# Altium schematic symbol library Isolated DC DC Converters.SchLib: 7 symbols
Pins are listed as number, name and electrical type; pins without a type are passive.

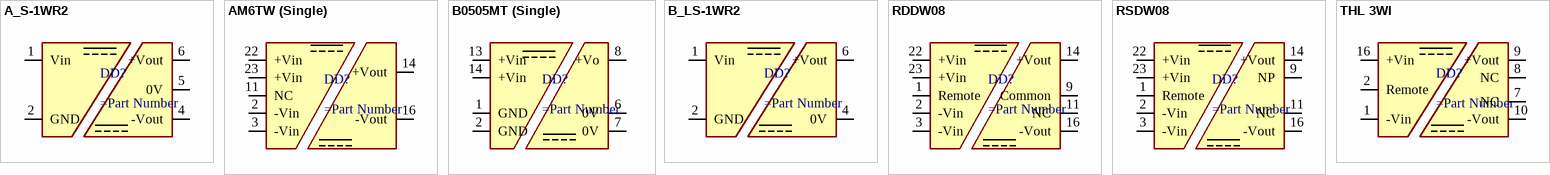
[diagram p0: symbols A_S-1WR2 to THL 3WI]

## A_S-1WR2
designator DD?
ComponentLink1Description: HelpURL; ComponentLink1URL: https://www.analog.com/media/en/technical-documentation/data-sheets/ADXL345.pdf?src-supplier=Farnell
pins: 1 Vin, 2 GND, 4 -Vout, 5 0V, 6 +Vout

## AM6TW (Single)
designator DD?
ComponentLink1Description: HelpURL; ComponentLink1URL: https://www.analog.com/media/en/technical-documentation/data-sheets/ADXL345.pdf?src-supplier=Farnell
pins: 2 -Vin, 3 -Vin, 11 NC, 14 +Vout, 16 -Vout, 22 +Vin, 23 +Vin

## B0505MT (Single)
designator DD?
ComponentLink1Description: HelpURL; ComponentLink1URL: https://www.analog.com/media/en/technical-documentation/data-sheets/ADXL345.pdf?src-supplier=Farnell
pins: 1 GND, 2 GND, 6 0V, 7 0V, 8 +Vo, 13 +Vin, 14 +Vin

## B_LS-1WR2
designator DD?
ComponentLink1Description: HelpURL; ComponentLink1URL: https://www.analog.com/media/en/technical-documentation/data-sheets/ADXL345.pdf?src-supplier=Farnell
pins: 1 Vin, 2 GND, 4 0V, 6 +Vout

## RDDW08
designator DD?
ComponentLink1Description: HelpURL; ComponentLink1URL: https://www.analog.com/media/en/technical-documentation/data-sheets/ADXL345.pdf?src-supplier=Farnell
pins: 1 Remote, 2 -Vin, 3 -Vin, 9 Common, 11 NC, 14 +Vout, 16 -Vout, 22 +Vin, 23 +Vin

## RSDW08
designator DD?
ComponentLink1Description: HelpURL; ComponentLink1URL: https://www.analog.com/media/en/technical-documentation/data-sheets/ADXL345.pdf?src-supplier=Farnell
pins: 1 Remote, 2 -Vin, 3 -Vin, 9 NP, 11 NC, 14 +Vout, 16 -Vout, 22 +Vin, 23 +Vin

## THL 3WI
designator DD?
ComponentLink1Description: HelpURL; ComponentLink1URL: https://www.analog.com/media/en/technical-documentation/data-sheets/ADXL345.pdf?src-supplier=Farnell
pins: 1 -Vin, 2 Remote, 7 NC, 8 NC, 9 +Vout, 10 -Vout, 16 +Vin